# Altium schematic symbol library MySchLib.SchLib: 175 symbols (part 3 of 3)
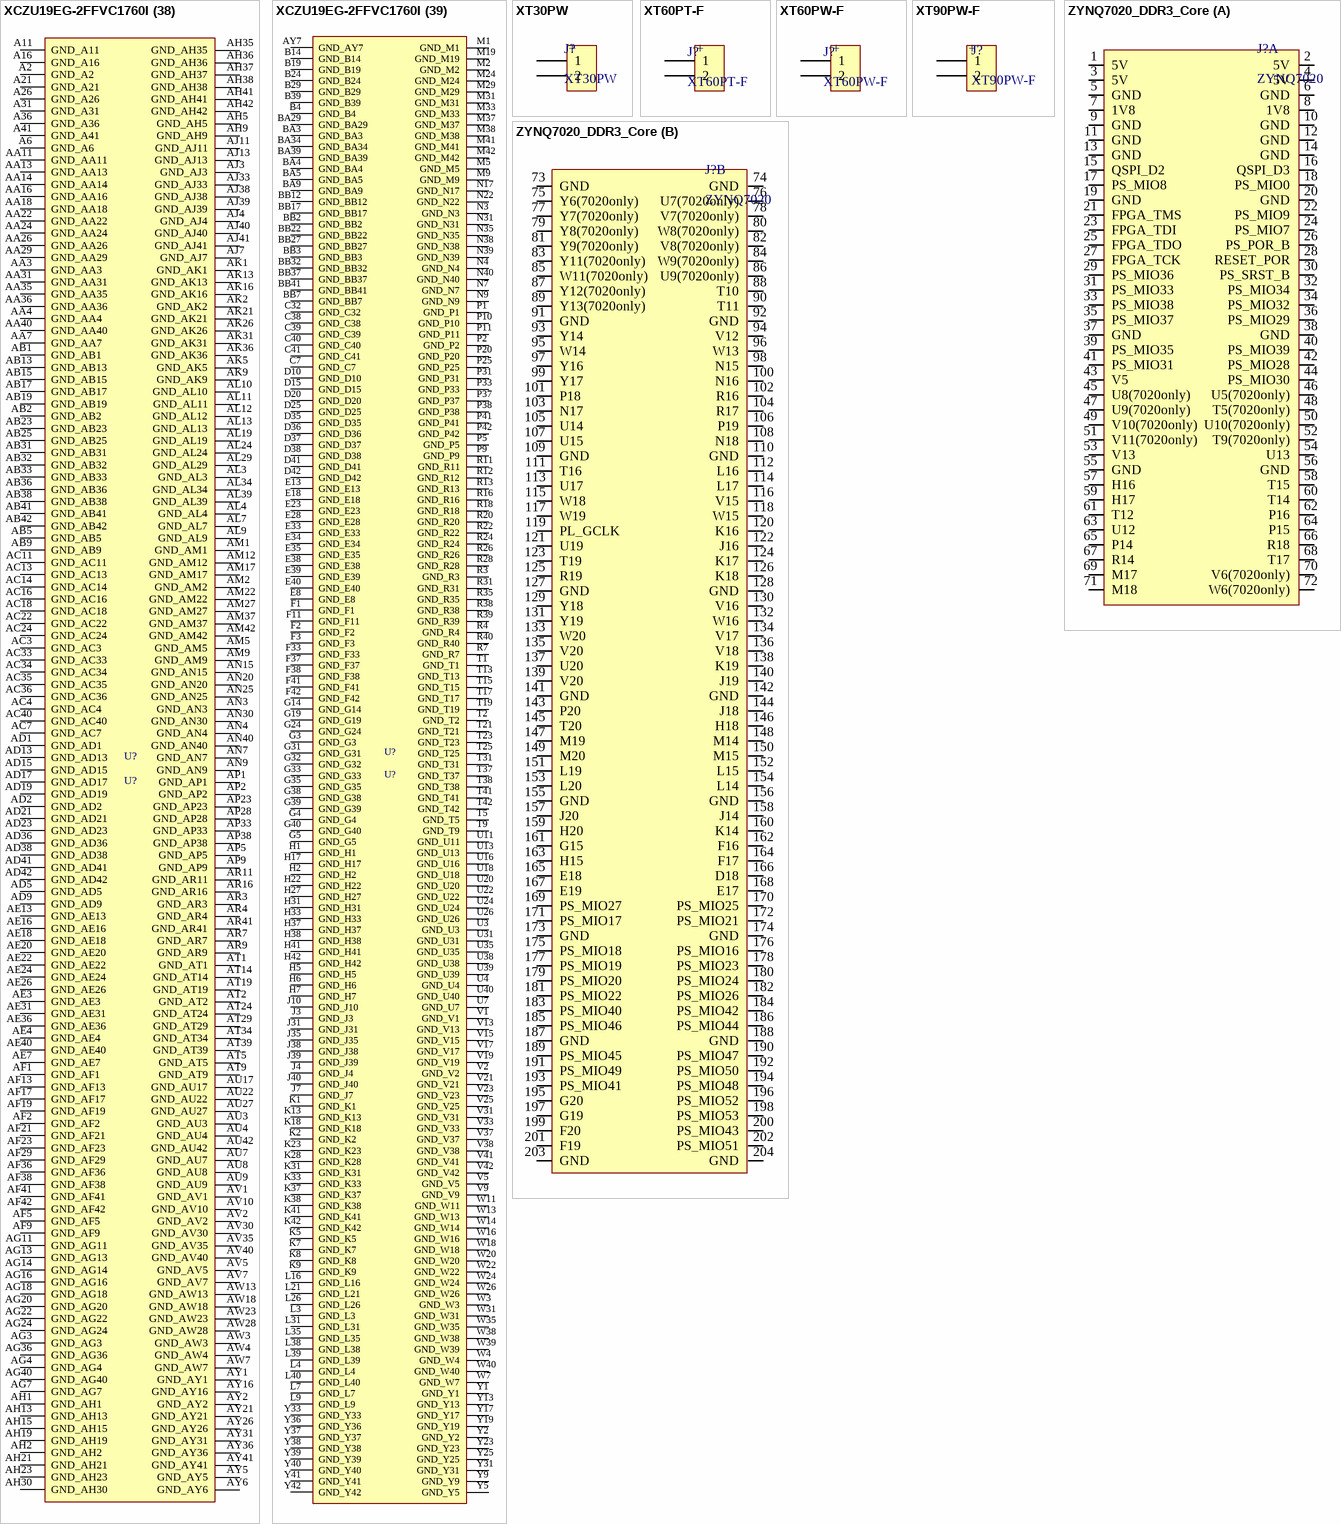
[diagram p18: symbols XCZU19EG-2FFVC1760I to ZYNQ7020_DDR3_Core]

## XCZU19EG-2FFVC1760I
designator U?, comment U?
Quad ARMÂ® CortexÂ®-A53 MPCoreâ„¢ with CoreSightâ„¢, Dual ARMÂ®Cortexâ„¢-R5 with CoreSightâ„¢, ARM Maliâ„¢-400 MP2 System On Chip _SOC_ IC ZynqÂ® UltraScale+â„¢ MPSoC EG ZynqÂ®UltraScale+â„¢ FPGA, 1143K+ Logic Cells 533MHz, 600MHz, 1.3GHz 1760-FCBGA _42.5x42.5_; MP: XCZU19EG-2FFVC1760I; MF: Xilinx Inc.; Availability: Unavailable; Price: None; Package: BBGA-1760 Xilinx Inc.; Value: *; SnapEDA_Link: https://www.snapeda.com/parts/XCZU19EG-2FFVC1760I/Xilinx%20Inc./view-part/3661904/?ref=snap
footprint BGA1764C100P42X42_4250X4250X371N
part A pins: AA20 VREFN (io), AA21 VP (io), AB20 VN (io), AB21 VREFP (io), AC20 DXN (io), AC21 DXP (io), AE11 MGTAVTTRCAL_R (io), AE12 MGTRREF_R (io), AG27 GND_PSADC (power), AG39 PS_MGTRREF_505 (io), AH16 POR_OVERRIDE (io), AH17 PUDC_B_0 (io), AH28 VCC_PSADC (power), AJ28 GND_PSADC (power), AJ29 VCC_PSADC (power), T32 MGTRREF_L (io), T33 MGTAVTTRCAL_L (io), Y20 VCCADC (power), Y21 GNDADC (power)
part B pins: AJ19 VREF_64 (power), AJ20 IO_L23N_T3U_N9_64 (io), AJ21 IO_L23P_T3U_N8_64 (io), AJ22 IO_L24P_T3U_N10_64 (io), AK19 IO_L22N_T3U_N7_DBC_AD0N_64 (io), AK20 IO_L22P_T3U_N6_DBC_AD0P_64 (io), AK22 IO_L24N_T3U_N11_64 (io), AL20 IO_T3U_N12_64 (io), AL21 IO_L21N_T3L_N5_AD8N_64 (io), AL22 IO_L21P_T3L_N4_AD8P_64 (io), AM19 IO_L19P_T3L_N0_DBC_AD9P_64 (io), AM20 IO_L20N_T3L_N3_AD1N_64 (io), AM21 IO_L20P_T3L_N2_AD1P_64 (io), AN19 IO_L19N_T3L_N1_DBC_AD9N_64 (io), AN21 IO_L16P_T2U_N6_QBC_AD3P_64 (io), AN22 IO_L15P_T2L_N4_AD11P_64 (io), AP19 IO_L18P_T2U_N10_AD2P_64 (io), AP20 IO_L17P_T2U_N8_AD10P_64 (io), AP21 IO_L16N_T2U_N7_QBC_AD3N_64 (io), AP22 IO_L15N_T2L_N5_AD11N_64 (io), AR19 IO_L18N_T2U_N11_AD2N_64 (io), AR20 IO_L17N_T2U_N9_AD10N_64 (io), AR21 VCCO_64 (power), AR22 IO_T2U_N12_64 (io), AT20 IO_L14P_T2L_N2_GC_64 (io), AT21 IO_L13N_T2L_N1_GC_QBC_64 (io), AT22 IO_L13P_T2L_N0_GC_QBC_64 (io), AU19 IO_L14N_T2L_N3_GC_64 (io), AU20 IO_L12P_T1U_N10_GC_64 (io), AU21 IO_L11P_T1U_N8_GC_64 (io), AU23 IO_L7P_T1L_N0_QBC_AD13P_64 (io), AV19 IO_L12N_T1U_N11_GC_64 (io), AV20 VCCO_64 (power), AV21 IO_L11N_T1U_N9_GC_64 (io), AV22 IO_L8P_T1L_N2_AD5P_64 (io), AV23 IO_L7N_T1L_N1_QBC_AD13N_64 (io), AW19 IO_L9N_T1L_N5_AD12N_64 (io), AW20 IO_L9P_T1L_N4_AD12P_64 (io), AW21 IO_T1U_N12_64 (io), AW22 IO_L8N_T1L_N3_AD5N_64 (io), AY18 IO_L10N_T1U_N7_QBC_AD4N_64 (io), AY19 IO_L10P_T1U_N6_QBC_AD4P_64 (io), AY20 IO_L4P_T0U_N6_DBC_AD7P_64 (io), AY22 IO_L2N_T0L_N3_64 (io), AY23 IO_L2P_T0L_N2_64 (io), BA18 IO_L6P_T0U_N10_AD6P_64 (io), BA19 VCCO_64 (power), BA20 IO_L4N_T0U_N7_DBC_AD7N_64 (io), BA21 IO_L3N_T0L_N5_AD15N_64 (io), BA22 IO_L3P_T0L_N4_AD15P_64 (io), BA23 IO_L1P_T0L_N0_DBC_64 (io), BB18 IO_L6N_T0U_N11_AD6N_64 (io), BB19 IO_L5N_T0U_N9_AD14N_64 (io), BB20 IO_L5P_T0U_N8_AD14P_64 (io), BB21 IO_T0U_N12_VRP_64 (io), BB23 IO_L1N_T0L_N1_DBC_64 (io)
part C pins: AJ23 VREF_65 (power), AJ24 IO_L24P_T3U_N10_65 (io), AK23 IO_L23P_T3U_N8_I2C_SCLK_65 (io), AK24 IO_L24N_T3U_N11_65 (io), AL23 IO_L23N_T3U_N9_PERSTN1_I2C_SDA_65 (io), AM23 IO_L22P_T3U_N6_DBC_AD0P_65 (io), AM24 IO_L21P_T3L_N4_AD8P_65 (io), AM25 IO_T3U_N12_PERSTN0_65 (io), AM26 IO_L15P_T2L_N4_AD11P_65 (io), AM28 IO_L17P_T2U_N8_AD10P_65 (io), AN23 IO_L22N_T3U_N7_DBC_AD0N_65 (io), AN24 IO_L21N_T3L_N5_AD8N_65 (io), AN26 IO_L15N_T2L_N5_AD11N_65 (io), AN27 IO_L16P_T2U_N6_QBC_AD3P_65 (io), AN28 IO_L17N_T2U_N9_AD10N_65 (io), AP24 IO_L20P_T3L_N2_AD1P_65 (io), AP25 IO_L20N_T3L_N3_AD1N_65 (io), AP26 IO_T2U_N12_65 (io), AP27 IO_L16N_T2U_N7_QBC_AD3N_65 (io), AR23 IO_L19P_T3L_N0_DBC_AD9P_65 (io), AR24 IO_L14P_T2L_N2_GC_65 (io), AR25 IO_L14N_T2L_N3_GC_65 (io), AR26 VCCO_65 (power), AR27 IO_L13P_T2L_N0_GC_QBC_65 (io), AR28 IO_L18P_T2U_N10_AD2P_65 (io), AT23 IO_L19N_T3L_N1_DBC_AD9N_65 (io), AT25 IO_L12P_T1U_N10_GC_65 (io), AT26 IO_L12N_T1U_N11_GC_65 (io), AT27 IO_L13N_T2L_N1_GC_QBC_65 (io), AT28 IO_L18N_T2U_N11_AD2N_65 (io), AU24 IO_L7P_T1L_N0_QBC_AD13P_65 (io), AU25 IO_L11P_T1U_N8_GC_65 (io), AU26 IO_L11N_T1U_N9_GC_65 (io), AU28 IO_L10P_T1U_N6_QBC_AD4P_65 (io), AV24 IO_L7N_T1L_N1_QBC_AD13N_65 (io), AV25 VCCO_65 (power), AV26 IO_L8P_T1L_N2_AD5P_65 (io), AV27 IO_L9P_T1L_N4_AD12P_65 (io), AV28 IO_L10N_T1U_N7_QBC_AD4N_65 (io), AW24 IO_L1P_T0L_N0_DBC_65 (io), AW25 IO_T1U_N12_SMBALERT_65 (io), AW26 IO_L8N_T1L_N3_AD5N_65 (io), AW27 IO_L9N_T1L_N5_AD12N_65 (io), AY24 IO_L1N_T0L_N1_DBC_65 (io), AY25 IO_L3P_T0L_N4_AD15P_65 (io), AY27 IO_L5P_T0U_N8_AD14P_65 (io), AY28 IO_L5N_T0U_N9_AD14N_65 (io), BA24 VCCO_65 (power), BA25 IO_L3N_T0L_N5_AD15N_65 (io), BA26 IO_L4P_T0U_N6_DBC_AD7P_65 (io), BA27 IO_T0U_N12_VRP_65 (io), BA28 IO_L6P_T0U_N10_AD6P_65 (io), BB24 IO_L2P_T0L_N2_65 (io), BB25 IO_L2N_T0L_N3_65 (io), BB26 IO_L4N_T0U_N7_DBC_AD7N_65 (io), BB28 IO_L6N_T0U_N11_AD6N_65 (io)
part D pins: AJ16 VREF_66 (power), AJ17 IO_L22P_T3U_N6_DBC_AD0P_66 (io), AJ18 IO_L19P_T3L_N0_DBC_AD9P_66 (io), AK17 IO_L22N_T3U_N7_DBC_AD0N_66 (io), AK18 IO_L19N_T3L_N1_DBC_AD9N_66 (io), AL16 IO_L23P_T3U_N8_66 (io), AL17 IO_T3U_N12_66 (io), AL18 IO_L20P_T3L_N2_AD1P_66 (io), AM16 IO_L23N_T3U_N9_66 (io), AM18 IO_L20N_T3L_N3_AD1N_66 (io), AN16 IO_L24P_T3U_N10_66 (io), AN17 IO_L21N_T3L_N5_AD8N_66 (io), AN18 IO_L21P_T3L_N4_AD8P_66 (io), AP16 IO_L24N_T3U_N11_66 (io), AP17 IO_T2U_N12_66 (io), AP18 VCCO_66 (power), AR17 IO_L17P_T2U_N8_AD10P_66 (io), AR18 IO_L16P_T2U_N6_QBC_AD3P_66 (io), AT15 IO_L14P_T2L_N2_GC_66 (io), AT16 IO_L18P_T2U_N10_AD2P_66 (io), AT17 IO_L17N_T2U_N9_AD10N_66 (io), AT18 IO_L16N_T2U_N7_QBC_AD3N_66 (io), AU13 IO_L10P_T1U_N6_QBC_AD4P_66 (io), AU14 IO_L12P_T1U_N10_GC_66 (io), AU15 IO_L14N_T2L_N3_GC_66 (io), AU16 IO_L18N_T2U_N11_AD2N_66 (io), AU18 IO_L15P_T2L_N4_AD11P_66 (io), AV13 IO_L10N_T1U_N7_QBC_AD4N_66 (io), AV14 IO_L12N_T1U_N11_GC_66 (io), AV15 VCCO_66 (power), AV16 IO_L13N_T2L_N1_GC_QBC_66 (io), AV17 IO_L13P_T2L_N0_GC_QBC_66 (io), AV18 IO_L15N_T2L_N5_AD11N_66 (io), AW14 IO_L11N_T1U_N9_GC_66 (io), AW15 IO_L11P_T1U_N8_GC_66 (io), AW16 IO_L3N_T0L_N5_AD15N_66 (io), AW17 IO_L3P_T0L_N4_AD15P_66 (io), AY12 IO_L7P_T1L_N0_QBC_AD13P_66 (io), AY13 IO_T0U_N12_VRP_66 (io), AY14 IO_L5N_T0U_N9_AD14N_66 (io), AY15 IO_L5P_T0U_N8_AD14P_66 (io), AY17 IO_L1P_T0L_N0_DBC_66 (io), BA10 IO_L9P_T1L_N4_AD12P_66 (io), BA11 IO_L8P_T1L_N2_AD5P_66 (io), BA12 IO_L7N_T1L_N1_QBC_AD13N_66 (io), BA13 IO_L6P_T0U_N10_AD6P_66 (io), BA14 VCCO_66 (power), BA15 IO_L4P_T0U_N6_DBC_AD7P_66 (io), BA16 IO_L2P_T0L_N2_66 (io), BA17 IO_L1N_T0L_N1_DBC_66 (io), BB10 IO_L9N_T1L_N5_AD12N_66 (io), BB11 IO_L8N_T1L_N3_AD5N_66 (io), BB13 IO_L6N_T0U_N11_AD6N_66 (io), BB14 IO_T1U_N12_66 (io), BB15 IO_L4N_T0U_N7_DBC_AD7N_66 (io), BB16 IO_L2N_T0L_N3_66 (io)
part E pins: AH14 VREF_67 (power), AJ14 IO_L24P_T3U_N10_67 (io), AJ15 IO_L20P_T3L_N2_AD1P_67 (io), AK14 IO_L24N_T3U_N11_67 (io), AK15 IO_L20N_T3L_N3_AD1N_67 (io), AL14 IO_L21P_T3L_N4_AD8P_67 (io), AL15 IO_L19P_T3L_N0_DBC_AD9P_67 (io), AM10 IO_L18P_T2U_N10_AD2P_67 (io), AM11 IO_L17P_T2U_N8_AD10P_67 (io), AM13 IO_L23P_T3U_N8_67 (io), AM14 IO_L21N_T3L_N5_AD8N_67 (io), AM15 IO_L19N_T3L_N1_DBC_AD9N_67 (io), AN10 IO_L18N_T2U_N11_AD2N_67 (io), AN11 IO_L17N_T2U_N9_AD10N_67 (io), AN12 IO_L16P_T2U_N6_QBC_AD3P_67 (io), AN13 IO_L23N_T3U_N9_67 (io), AN14 IO_L22P_T3U_N6_DBC_AD0P_67 (io), AP10 IO_L14P_T2L_N2_GC_67 (io), AP11 IO_T2U_N12_67 (io), AP12 IO_L16N_T2U_N7_QBC_AD3N_67 (io), AP13 VCCO_67 (power), AP14 IO_L22N_T3U_N7_DBC_AD0N_67 (io), AP15 IO_T3U_N12_67 (io), AR10 IO_L14N_T2L_N3_GC_67 (io), AR12 IO_L13N_T2L_N1_GC_QBC_67 (io), AR13 IO_L13P_T2L_N0_GC_QBC_67 (io), AR14 IO_L15N_T2L_N5_AD11N_67 (io), AR15 IO_L15P_T2L_N4_AD11P_67 (io), AT10 IO_L12N_T1U_N11_GC_67 (io), AT11 IO_L12P_T1U_N10_GC_67 (io), AT12 IO_L11N_T1U_N9_GC_67 (io), AT13 IO_L11P_T1U_N8_GC_67 (io), AU10 IO_T1U_N12_67 (io), AU11 IO_L8P_T1L_N2_AD5P_67 (io), AU12 VCCO_67 (power), AV8 IO_L10N_T1U_N7_QBC_AD4N_67 (io), AV9 IO_L10P_T1U_N6_QBC_AD4P_67 (io), AV11 IO_L8N_T1L_N3_AD5N_67 (io), AV12 IO_L7P_T1L_N0_QBC_AD13P_67 (io), AW8 IO_L3P_T0L_N4_AD15P_67 (io), AW9 IO_L1P_T0L_N0_DBC_67 (io), AW10 IO_L9N_T1L_N5_AD12N_67 (io), AW11 IO_L9P_T1L_N4_AD12P_67 (io), AW12 IO_L7N_T1L_N1_QBC_AD13N_67 (io), AY8 IO_L3N_T0L_N5_AD15N_67 (io), AY9 IO_L1N_T0L_N1_DBC_67 (io), AY10 IO_T0U_N12_VRP_67 (io), AY11 VCCO_67 (power), BA6 IO_L5P_T0U_N8_AD14P_67 (io), BA7 IO_L4N_T0U_N7_DBC_AD7N_67 (io), BA8 IO_L4P_T0U_N6_DBC_AD7P_67 (io), BB4 IO_L6N_T0U_N11_AD6N_67 (io), BB5 IO_L6P_T0U_N10_AD6P_67 (io), BB6 IO_L5N_T0U_N9_AD14N_67 (io), BB8 IO_L2N_T0L_N3_67 (io), BB9 IO_L2P_T0L_N2_67 (io)
part F pins: A12 IO_L16N_T2U_N7_QBC_AD3N_68 (io), A13 IO_L17N_T2U_N9_AD10N_68 (io), A14 IO_L17P_T2U_N8_AD10P_68 (io), A15 IO_T3U_N12_68 (io), A17 IO_L22N_T3U_N7_DBC_AD0N_68 (io), A18 IO_L24N_T3U_N11_68 (io), B13 IO_L16P_T2U_N6_QBC_AD3P_68 (io), B15 IO_L18N_T2U_N11_AD2N_68 (io), B16 IO_L20N_T3L_N3_AD1N_68 (io), B17 IO_L22P_T3U_N6_DBC_AD0P_68 (io), B18 IO_L24P_T3U_N10_68 (io), C13 IO_L15N_T2L_N5_AD11N_68 (io), C14 IO_T2U_N12_68 (io), C15 IO_L18P_T2U_N10_AD2P_68 (io), C16 IO_L20P_T3L_N2_AD1P_68 (io), C17 VCCO_68 (power), C18 IO_L23N_T3U_N9_68 (io), D13 IO_L15P_T2L_N4_AD11P_68 (io), D14 IO_L14N_T2L_N3_GC_68 (io), D16 IO_L19N_T3L_N1_DBC_AD9N_68 (io), D17 IO_L21N_T3L_N5_AD8N_68 (io), D18 IO_L23P_T3U_N8_68 (io), E14 IO_L13N_T2L_N1_GC_QBC_68 (io), E15 IO_L14P_T2L_N2_GC_68 (io), E16 IO_L19P_T3L_N0_DBC_AD9P_68 (io), E17 IO_L21P_T3L_N4_AD8P_68 (io), F14 IO_L13P_T2L_N0_GC_QBC_68 (io), F15 IO_L12N_T1U_N11_GC_68 (io), F16 VCCO_68 (power), F17 IO_L11N_T1U_N9_GC_68 (io), F18 IO_L10N_T1U_N7_QBC_AD4N_68 (io), G15 IO_L7N_T1L_N1_QBC_AD13N_68 (io), G16 IO_L12P_T1U_N10_GC_68 (io), G17 IO_L11P_T1U_N8_GC_68 (io), G18 IO_L10P_T1U_N6_QBC_AD4P_68 (io), H15 IO_L7P_T1L_N0_QBC_AD13P_68 (io), H16 IO_L8N_T1L_N3_AD5N_68 (io), H18 IO_L9N_T1L_N5_AD12N_68 (io), J15 VCCO_68 (power), J16 IO_L8P_T1L_N2_AD5P_68 (io), J17 IO_T1U_N12_68 (io), J18 IO_L9P_T1L_N4_AD12P_68 (io), K15 IO_L5N_T0U_N9_AD14N_68 (io), K16 IO_L5P_T0U_N8_AD14P_68 (io), K17 IO_L6N_T0U_N11_AD6N_68 (io), L15 IO_L4N_T0U_N7_DBC_AD7N_68 (io), L17 IO_L6P_T0U_N10_AD6P_68 (io), M15 IO_L4P_T0U_N6_DBC_AD7P_68 (io), M16 IO_L3N_T0L_N5_AD15N_68 (io), M17 IO_L3P_T0L_N4_AD15P_68 (io), N15 IO_L1N_T0L_N1_DBC_68 (io), N16 IO_L2N_T0L_N3_68 (io), P15 IO_L1P_T0L_N0_DBC_68 (io), P16 IO_L2P_T0L_N2_68 (io), P17 VREF_68 (power), R15 IO_T0U_N12_VRP_68 (io)
part G pins: A29 IO_L9P_T1L_N4_AD12P_69 (io), A30 IO_L9N_T1L_N5_AD12N_69 (io), A32 IO_L10N_T1U_N7_QBC_AD4N_69 (io), A33 IO_L18P_T2U_N10_AD2P_69 (io), A34 IO_L18N_T2U_N11_AD2N_69 (io), A35 IO_L17N_T2U_N9_AD10N_69 (io), A37 IO_L21P_T3L_N4_AD8P_69 (io), A38 IO_L21N_T3L_N5_AD8N_69 (io), A39 IO_L22P_T3U_N6_DBC_AD0P_69 (io), A40 IO_L22N_T3U_N7_DBC_AD0N_69 (io), B30 IO_L8N_T1L_N3_AD5N_69 (io), B31 IO_L10P_T1U_N6_QBC_AD4P_69 (io), B32 IO_L14P_T2L_N2_GC_69 (io), B33 IO_L14N_T2L_N3_GC_69 (io), B34 VCCO_69 (power), B35 IO_L17P_T2U_N8_AD10P_69 (io), B36 IO_L20P_T3L_N2_AD1P_69 (io), B37 IO_L20N_T3L_N3_AD1N_69 (io), B38 IO_T3U_N12_69 (io), B40 IO_L23P_T3U_N8_69 (io), B41 IO_L23N_T3U_N9_69 (io), B42 IO_L24N_T3U_N11_69 (io), C29 IO_L8P_T1L_N2_AD5P_69 (io), C30 IO_L12P_T1U_N10_GC_69 (io), C31 IO_L12N_T1U_N11_GC_69 (io), C33 IO_L15N_T2L_N5_AD11N_69 (io), C34 IO_L16N_T2U_N7_QBC_AD3N_69 (io), C35 IO_T2U_N12_69 (io), C36 IO_L19P_T3L_N0_DBC_AD9P_69 (io), C37 IO_L19N_T3L_N1_DBC_AD9N_69 (io), C42 IO_L24P_T3U_N10_69 (io), D29 IO_L7N_T1L_N1_QBC_AD13N_69 (io), D30 VCCO_69 (power), D31 IO_L11N_T1U_N9_GC_69 (io), D32 IO_L13N_T2L_N1_GC_QBC_69 (io), D33 IO_L15P_T2L_N4_AD11P_69 (io), D34 IO_L16P_T2U_N6_QBC_AD3P_69 (io), E29 IO_L7P_T1L_N0_QBC_AD13P_69 (io), E30 IO_T1U_N12_69 (io), E31 IO_L11P_T1U_N8_GC_69 (io), E32 IO_L13P_T2L_N0_GC_QBC_69 (io), F29 IO_L5N_T0U_N9_AD14N_69 (io), F30 IO_L4N_T0U_N7_DBC_AD7N_69 (io), F31 IO_L3P_T0L_N4_AD15P_69 (io), F32 IO_L3N_T0L_N5_AD15N_69 (io), G28 IO_L5P_T0U_N8_AD14P_69 (io), G29 VCCO_69 (power), G30 IO_L4P_T0U_N6_DBC_AD7P_69 (io), H28 IO_L6N_T0U_N11_AD6N_69 (io), H29 IO_T0U_N12_VRP_69 (io), H30 IO_L2N_T0L_N3_69 (io), J28 IO_L6P_T0U_N10_AD6P_69 (io), J29 IO_L1N_T0L_N1_DBC_69 (io), J30 IO_L2P_T0L_N2_69 (io), K29 IO_L1P_T0L_N0_DBC_69 (io), K30 VREF_69 (power)
part H pins: A24 IO_L24P_T3U_N10_70 (io), A25 IO_L24N_T3U_N11_70 (io), A27 IO_L20P_T3L_N2_AD1P_70 (io), A28 IO_L20N_T3L_N3_AD1N_70 (io), B25 IO_L22P_T3U_N6_DBC_AD0P_70 (io), B26 IO_L22N_T3U_N7_DBC_AD0N_70 (io), B27 IO_L21N_T3L_N5_AD8N_70 (io), B28 IO_L19N_T3L_N1_DBC_AD9N_70 (io), C24 IO_L23P_T3U_N8_70 (io), C25 IO_L23N_T3U_N9_70 (io), C26 IO_L21P_T3L_N4_AD8P_70 (io), C27 VCCO_70 (power), C28 IO_L19P_T3L_N0_DBC_AD9P_70 (io), D24 IO_T3U_N12_70 (io), D26 IO_T2U_N12_70 (io), D27 IO_L17P_T2U_N8_AD10P_70 (io), D28 IO_L17N_T2U_N9_AD10N_70 (io), E24 IO_L18N_T2U_N11_AD2N_70 (io), E25 IO_L14N_T2L_N3_GC_70 (io), E26 IO_L16P_T2U_N6_QBC_AD3P_70 (io), E27 IO_L16N_T2U_N7_QBC_AD3N_70 (io), F24 IO_L18P_T2U_N10_AD2P_70 (io), F25 IO_L14P_T2L_N2_GC_70 (io), F26 VCCO_70 (power), F27 IO_L15P_T2L_N4_AD11P_70 (io), F28 IO_L15N_T2L_N5_AD11N_70 (io), G23 IO_L10N_T1U_N7_QBC_AD4N_70 (io), G25 IO_L12N_T1U_N11_GC_70 (io), G26 IO_L13P_T2L_N0_GC_QBC_70 (io), G27 IO_L13N_T2L_N1_GC_QBC_70 (io), H23 IO_L10P_T1U_N6_QBC_AD4P_70 (io), H24 IO_L12P_T1U_N10_GC_70 (io), H25 IO_L11P_T1U_N8_GC_70 (io), H26 IO_L11N_T1U_N9_GC_70 (io), J23 IO_L9P_T1L_N4_AD12P_70 (io), J24 IO_L9N_T1L_N5_AD12N_70 (io), J25 VCCO_70 (power), J26 IO_L8N_T1L_N3_AD5N_70 (io), J27 IO_L7N_T1L_N1_QBC_AD13N_70 (io), K24 IO_L4N_T0U_N7_DBC_AD7N_70 (io), K25 IO_T1U_N12_70 (io), K26 IO_L8P_T1L_N2_AD5P_70 (io), K27 IO_L7P_T1L_N0_QBC_AD13P_70 (io), L23 IO_L6N_T0U_N11_AD6N_70 (io), L24 IO_L4P_T0U_N6_DBC_AD7P_70 (io), L25 IO_L2N_T0L_N3_70 (io), M23 IO_L6P_T0U_N10_AD6P_70 (io), M25 IO_L2P_T0L_N2_70 (io), M26 IO_T0U_N12_VRP_70 (io), N23 IO_L5N_T0U_N9_AD14N_70 (io), N24 IO_L3P_T0L_N4_AD15P_70 (io), N25 IO_L3N_T0L_N5_AD15N_70 (io), N26 IO_L1N_T0L_N1_DBC_70 (io), P23 IO_L5P_T0U_N8_AD14P_70 (io), P24 VREF_70 (power), P26 IO_L1P_T0L_N0_DBC_70 (io)
part I pins: A19 IO_L21N_T3L_N5_AD8N_71 (io), A20 IO_L21P_T3L_N4_AD8P_71 (io), A22 IO_L23N_T3U_N9_71 (io), A23 IO_L24N_T3U_N11_71 (io), B20 IO_L20N_T3L_N3_AD1N_71 (io), B21 IO_L22N_T3U_N7_DBC_AD0N_71 (io), B22 IO_L23P_T3U_N8_71 (io), B23 IO_L24P_T3U_N10_71 (io), C19 IO_L19N_T3L_N1_DBC_AD9N_71 (io), C20 IO_L20P_T3L_N2_AD1P_71 (io), C21 IO_L22P_T3U_N6_DBC_AD0P_71 (io), C22 VCCO_71 (power), C23 IO_T3U_N12_71 (io), D19 IO_L19P_T3L_N0_DBC_AD9P_71 (io), D21 IO_L17N_T2U_N9_AD10N_71 (io), D22 IO_L18N_T2U_N11_AD2N_71 (io), D23 IO_T2U_N12_71 (io), E19 IO_L15N_T2L_N5_AD11N_71 (io), E20 IO_L16N_T2U_N7_QBC_AD3N_71 (io), E21 IO_L17P_T2U_N8_AD10P_71 (io), E22 IO_L18P_T2U_N10_AD2P_71 (io), F19 IO_L15P_T2L_N4_AD11P_71 (io), F20 IO_L16P_T2U_N6_QBC_AD3P_71 (io), F21 VCCO_71 (power), F22 IO_L14N_T2L_N3_GC_71 (io), F23 IO_L14P_T2L_N2_GC_71 (io), G20 IO_L12N_T1U_N11_GC_71 (io), G21 IO_L13N_T2L_N1_GC_QBC_71 (io), G22 IO_L13P_T2L_N0_GC_QBC_71 (io), H19 IO_L11N_T1U_N9_GC_71 (io), H20 IO_L11P_T1U_N8_GC_71 (io), H21 IO_L12P_T1U_N10_GC_71 (io), J19 IO_L7N_T1L_N1_QBC_AD13N_71 (io), J20 VCCO_71 (power), J21 IO_L9N_T1L_N5_AD12N_71 (io), J22 IO_L10N_T1U_N7_QBC_AD4N_71 (io), K19 IO_L7P_T1L_N0_QBC_AD13P_71 (io), K20 IO_L8N_T1L_N3_AD5N_71 (io), K21 IO_L9P_T1L_N4_AD12P_71 (io), K22 IO_L10P_T1U_N6_QBC_AD4P_71 (io), L18 IO_L2N_T0L_N3_71 (io), L19 IO_L3N_T0L_N5_AD15N_71 (io), L20 IO_L8P_T1L_N2_AD5P_71 (io), L22 IO_T1U_N12_71 (io), M18 IO_L2P_T0L_N2_71 (io), M20 IO_L3P_T0L_N4_AD15P_71 (io), M21 IO_L6N_T0U_N11_AD6N_71 (io), M22 IO_L6P_T0U_N10_AD6P_71 (io), N18 IO_L1N_T0L_N1_DBC_71 (io), N19 IO_L4N_T0U_N7_DBC_AD7N_71 (io), N20 IO_L4P_T0U_N6_DBC_AD7P_71 (io), N21 IO_L5N_T0U_N9_AD14N_71 (io), P18 IO_L1P_T0L_N0_DBC_71 (io), P19 VREF_71 (power), P21 IO_L5P_T0U_N8_AD14P_71 (io), P22 IO_T0U_N12_VRP_71 (io)
part J pins: J12 IO_L12N_AD0N_90 (io), J13 IO_L12P_AD0P_90 (io), J14 IO_L11N_AD1N_90 (io), K10 IO_L10N_AD2N_90 (io), K11 IO_L10P_AD2P_90 (io), K12 IO_L7N_HDGC_AD5N_90 (io), K14 IO_L11P_AD1P_90 (io), L10 IO_L9N_AD3N_90 (io), L11 VCCO_90 (power), L12 IO_L7P_HDGC_AD5P_90 (io), L13 IO_L8N_HDGC_AD4N_90 (io), L14 IO_L8P_HDGC_AD4P_90 (io), M10 IO_L9P_AD3P_90 (io), M11 IO_L6N_HDGC_AD6N_90 (io), M12 IO_L6P_HDGC_AD6P_90 (io), M13 IO_L5N_HDGC_AD7N_90 (io), M14 VCCO_90 (power), N10 IO_L1N_AD11N_90 (io), N11 IO_L1P_AD11P_90 (io), N12 IO_L2N_AD10N_90 (io), N13 IO_L5P_HDGC_AD7P_90 (io), N14 IO_L4N_AD8N_90 (io), P12 IO_L2P_AD10P_90 (io), P13 IO_L3N_AD9N_90 (io), P14 IO_L4P_AD8P_90 (io), R14 IO_L3P_AD9P_90 (io)
part K pins: A9 IO_L12N_AD8N_91 (io), A10 IO_L12P_AD8P_91 (io), B10 IO_L10N_AD10N_91 (io), B11 IO_L11N_AD9N_91 (io), B12 IO_L11P_AD9P_91 (io), C10 IO_L10P_AD10P_91 (io), C11 IO_L9N_AD11N_91 (io), C12 VCCO_91 (power), D11 IO_L9P_AD11P_91 (io), D12 IO_L8N_HDGC_91 (io), E10 IO_L7N_HDGC_91 (io), E11 IO_L7P_HDGC_91 (io), E12 IO_L8P_HDGC_91 (io), F10 IO_L5N_HDGC_91 (io), F12 IO_L6N_HDGC_91 (io), F13 IO_L6P_HDGC_91 (io), G10 IO_L5P_HDGC_91 (io), G11 IO_L2N_AD14N_91 (io), G12 IO_L3N_AD13N_91 (io), G13 IO_L4N_AD12N_91 (io), H10 IO_L1N_AD15N_91 (io), H11 IO_L2P_AD14P_91 (io), H12 VCCO_91 (power), H13 IO_L3P_AD13P_91 (io), H14 IO_L4P_AD12P_91 (io), J11 IO_L1P_AD15P_91 (io)
part L pins: A7 IO_L10N_AD2N_93 (io), A8 IO_L11N_AD1N_93 (io), B7 IO_L10P_AD2P_93 (io), B8 IO_L11P_AD1P_93 (io), B9 VCCO_93 (power), C8 IO_L8N_HDGC_AD4N_93 (io), C9 IO_L12N_AD0N_93 (io), D6 IO_L9N_AD3N_93 (io), D7 IO_L7N_HDGC_AD5N_93 (io), D8 IO_L8P_HDGC_AD4P_93 (io), D9 IO_L12P_AD0P_93 (io), E6 IO_L9P_AD3P_93 (io), E7 IO_L7P_HDGC_AD5P_93 (io), E9 IO_L4N_AD8N_93 (io), F6 IO_L1N_AD11N_93 (io), F7 IO_L5N_HDGC_AD7N_93 (io), F8 IO_L6N_HDGC_AD6N_93 (io), F9 IO_L4P_AD8P_93 (io), G6 IO_L1P_AD11P_93 (io), G7 IO_L5P_HDGC_AD7P_93 (io), G8 IO_L6P_HDGC_AD6P_93 (io), G9 VCCO_93 (power), H8 IO_L2N_AD10N_93 (io), H9 IO_L3N_AD9N_93 (io), J8 IO_L2P_AD10P_93 (io), J9 IO_L3P_AD9P_93 (io)
part M pins: A3 IO_L10N_AD10N_94 (io), A4 IO_L12N_AD8N_94 (io), A5 IO_L12P_AD8P_94 (io), B1 IO_L9N_AD11N_94 (io), B2 IO_L9P_AD11P_94 (io), B3 IO_L10P_AD10P_94 (io), B5 IO_L11N_AD9N_94 (io), B6 IO_L11P_AD9P_94 (io), C1 IO_L6N_HDGC_94 (io), C2 VCCO_94 (power), C3 IO_L8N_HDGC_94 (io), C4 IO_L8P_HDGC_94 (io), C5 IO_L7N_HDGC_94 (io), C6 IO_L7P_HDGC_94 (io), D1 IO_L4N_AD12N_94 (io), D2 IO_L6P_HDGC_94 (io), D3 IO_L5N_HDGC_94 (io), D4 IO_L5P_HDGC_94 (io), D5 VCCO_94 (power), E1 IO_L4P_AD12P_94 (io), E2 IO_L3N_AD13N_94 (io), E3 IO_L3P_AD13P_94 (io), E4 IO_L2N_AD14N_94 (io), E5 IO_L2P_AD14P_94 (io), F4 IO_L1N_AD15N_94 (io), F5 IO_L1P_AD15P_94 (io)
part N pins: AA32 MGTREFCLK1P_128 (io), AA33 MGTREFCLK1N_128 (io), AB34 MGTREFCLK0P_128 (io), AB35 MGTREFCLK0N_128 (io), T39 MGTYRXP3_128 (io), T40 MGTYRXN3_128 (io), U36 MGTYTXP3_128 (io), U37 MGTYTXN3_128 (io), U41 MGTYRXP2_128 (io), U42 MGTYRXN2_128 (io), V34 MGTYTXP2_128 (io), V35 MGTYTXN2_128 (io), V39 MGTYRXP1_128 (io), V40 MGTYRXN1_128 (io), W36 MGTYTXP1_128 (io), W37 MGTYTXN1_128 (io), W41 MGTYRXP0_128 (io), W42 MGTYRXN0_128 (io), Y34 MGTYTXP0_128 (io), Y35 MGTYTXN0_128 (io)
part O pins: M39 MGTYRXP3_129 (io), M40 MGTYRXN3_129 (io), N36 MGTYTXP3_129 (io), N37 MGTYTXN3_129 (io), N41 MGTYRXP2_129 (io), N42 MGTYRXN2_129 (io), P34 MGTYTXP2_129 (io), P35 MGTYTXN2_129 (io), P39 MGTYRXP1_129 (io), P40 MGTYRXN1_129 (io), R36 MGTYTXP1_129 (io), R37 MGTYTXN1_129 (io), R41 MGTYRXP0_129 (io), R42 MGTYRXN0_129 (io), T34 MGTYTXP0_129 (io), T35 MGTYTXN0_129 (io), U32 MGTREFCLK1P_129 (io), U33 MGTREFCLK1N_129 (io), W32 MGTREFCLK0P_129 (io), W33 MGTREFCLK0N_129 (io)
part P pins: H39 MGTYRXP3_130 (io), H40 MGTYRXN3_130 (io), J36 MGTYTXP3_130 (io), J37 MGTYTXN3_130 (io), J41 MGTYRXP2_130 (io), J42 MGTYRXN2_130 (io), K34 MGTYTXP2_130 (io), K35 MGTYTXN2_130 (io), K39 MGTYRXP1_130 (io), K40 MGTYRXN1_130 (io), L36 MGTYTXP1_130 (io), L37 MGTYTXN1_130 (io), L41 MGTYRXP0_130 (io), L42 MGTYRXN0_130 (io), M34 MGTYTXP0_130 (io), M35 MGTYTXN0_130 (io), N32 MGTREFCLK1P_130 (io), N33 MGTREFCLK1N_130 (io), R32 MGTREFCLK0P_130 (io), R33 MGTREFCLK0N_130 (io)
part Q pins: D39 MGTYRXP3_131 (io), D40 MGTYRXN3_131 (io), E36 MGTYTXP3_131 (io), E37 MGTYTXN3_131 (io), E41 MGTYRXP2_131 (io), E42 MGTYRXN2_131 (io), F34 MGTYTXP2_131 (io), F35 MGTYTXN2_131 (io), F39 MGTYRXP1_131 (io), F40 MGTYRXN1_131 (io), G36 MGTYTXP1_131 (io), G37 MGTYTXN1_131 (io), G41 MGTYRXP0_131 (io), G42 MGTYRXN0_131 (io), H34 MGTYTXP0_131 (io), H35 MGTYTXN0_131 (io), J32 MGTREFCLK1P_131 (io), J33 MGTREFCLK1N_131 (io), L32 MGTREFCLK0P_131 (io), L33 MGTREFCLK0N_131 (io)
part R pins: AJ9 MGTREFCLK1N_224 (io), AJ10 MGTREFCLK1P_224 (io), AK11 MGTREFCLK0N_224 (io), AK12 MGTREFCLK0P_224 (io), AT7 MGTHTXN3_224 (io), AT8 MGTHTXP3_224 (io), AU1 MGTHRXN3_224 (io), AU2 MGTHRXP3_224 (io), AU5 MGTHTXN2_224 (io), AU6 MGTHTXP2_224 (io), AV3 MGTHRXN2_224 (io), AV4 MGTHRXP2_224 (io), AW1 MGTHRXN1_224 (io), AW2 MGTHRXP1_224 (io), AW5 MGTHTXN1_224 (io), AW6 MGTHTXP1_224 (io), AY3 MGTHTXN0_224 (io), AY4 MGTHTXP0_224 (io), BA1 MGTHRXN0_224 (io), BA2 MGTHRXP0_224 (io)
part S pins: AG9 MGTREFCLK1N_225 (io), AG10 MGTREFCLK1P_225 (io), AH11 MGTREFCLK0N_225 (io), AH12 MGTREFCLK0P_225 (io), AM7 MGTHTXN3_225 (io), AM8 MGTHTXP3_225 (io), AN1 MGTHRXN3_225 (io), AN2 MGTHRXP3_225 (io), AN5 MGTHTXN2_225 (io), AN6 MGTHTXP2_225 (io), AP3 MGTHRXN2_225 (io), AP4 MGTHRXP2_225 (io), AP7 MGTHTXN1_225 (io), AP8 MGTHTXP1_225 (io), AR1 MGTHRXN1_225 (io), AR2 MGTHRXP1_225 (io), AR5 MGTHTXN0_225 (io), AR6 MGTHTXP0_225 (io), AT3 MGTHRXN0_225 (io), AT4 MGTHRXP0_225 (io)
part T pins: AE9 MGTREFCLK1N_226 (io), AE10 MGTREFCLK1P_226 (io), AF11 MGTREFCLK0N_226 (io), AF12 MGTREFCLK0P_226 (io), AH7 MGTHTXN3_226 (io), AH8 MGTHTXP3_226 (io), AJ1 MGTHRXN3_226 (io), AJ2 MGTHRXP3_226 (io), AJ5 MGTHTXN2_226 (io), AJ6 MGTHTXP2_226 (io), AK3 MGTHRXN2_226 (io), AK4 MGTHRXP2_226 (io), AK7 MGTHTXN1_226 (io), AK8 MGTHTXP1_226 (io), AL1 MGTHRXN1_226 (io), AL2 MGTHRXP1_226 (io), AL5 MGTHTXN0_226 (io), AL6 MGTHTXP0_226 (io), AM3 MGTHRXN0_226 (io), AM4 MGTHRXP0_226 (io)
part U pins: AC9 MGTREFCLK1N_227 (io), AC10 MGTREFCLK1P_227 (io), AD7 MGTHTXN3_227 (io), AD8 MGTHTXP3_227 (io), AD11 MGTREFCLK0N_227 (io), AD12 MGTREFCLK0P_227 (io), AE1 MGTHRXN3_227 (io), AE2 MGTHRXP3_227 (io), AE5 MGTHTXN2_227 (io), AE6 MGTHTXP2_227 (io), AF3 MGTHRXN2_227 (io), AF4 MGTHRXP2_227 (io), AF7 MGTHTXN1_227 (io), AF8 MGTHTXP1_227 (io), AG1 MGTHRXN1_227 (io), AG2 MGTHRXP1_227 (io), AG5 MGTHTXN0_227 (io), AG6 MGTHTXP0_227 (io), AH3 MGTHRXN0_227 (io), AH4 MGTHRXP0_227 (io)
part V pins: AA1 MGTHRXN3_228 (io), AA2 MGTHRXP3_228 (io), AA5 MGTHTXN2_228 (io), AA6 MGTHTXP2_228 (io), AA9 MGTREFCLK1N_228 (io), AA10 MGTREFCLK1P_228 (io), AB3 MGTHRXN2_228 (io), AB4 MGTHRXP2_228 (io), AB7 MGTHTXN1_228 (io), AB8 MGTHTXP1_228 (io), AB11 MGTREFCLK0N_228 (io), AB12 MGTREFCLK0P_228 (io), AC1 MGTHRXN1_228 (io), AC2 MGTHRXP1_228 (io), AC5 MGTHTXN0_228 (io), AC6 MGTHTXP0_228 (io), AD3 MGTHRXN0_228 (io), AD4 MGTHRXP0_228 (io), Y7 MGTHTXN3_228 (io), Y8 MGTHTXP3_228 (io)
part W pins: T7 MGTHTXN3_229 (io), T8 MGTHTXP3_229 (io), U1 MGTHRXN3_229 (io), U2 MGTHRXP3_229 (io), U5 MGTHTXN2_229 (io), U6 MGTHTXP2_229 (io), V3 MGTHRXN2_229 (io), V4 MGTHRXP2_229 (io), V7 MGTHTXN1_229 (io), V8 MGTHTXP1_229 (io), W1 MGTHRXN1_229 (io), W2 MGTHRXP1_229 (io), W5 MGTHTXN0_229 (io), W6 MGTHTXP0_229 (io), W9 MGTREFCLK1N_229 (io), W10 MGTREFCLK1P_229 (io), Y3 MGTHRXN0_229 (io), Y4 MGTHRXP0_229 (io), Y11 MGTREFCLK0N_229 (io), Y12 MGTREFCLK0P_229 (io)
part X pins: M7 MGTHTXN3_230 (io), M8 MGTHTXP3_230 (io), N1 MGTHRXN3_230 (io), N2 MGTHRXP3_230 (io), N5 MGTHTXN2_230 (io), N6 MGTHTXP2_230 (io), P3 MGTHRXN2_230 (io), P4 MGTHRXP2_230 (io), P7 MGTHTXN1_230 (io), P8 MGTHTXP1_230 (io), R1 MGTHRXN1_230 (io), R2 MGTHRXP1_230 (io), R5 MGTHTXN0_230 (io), R6 MGTHTXP0_230 (io), T3 MGTHRXN0_230 (io), T4 MGTHRXP0_230 (io), U9 MGTREFCLK1N_230 (io), U10 MGTREFCLK1P_230 (io), V11 MGTREFCLK0N_230 (io), V12 MGTREFCLK0P_230 (io)
part Y pins: G1 MGTHRXN3_231 (io), G2 MGTHRXP3_231 (io), H3 MGTHTXN3_231 (io), H4 MGTHTXP3_231 (io), J1 MGTHRXN2_231 (io), J2 MGTHRXP2_231 (io), J5 MGTHTXN2_231 (io), J6 MGTHTXP2_231 (io), K3 MGTHTXN1_231 (io), K4 MGTHTXP1_231 (io), L1 MGTHRXN1_231 (io), L2 MGTHRXP1_231 (io), L5 MGTHTXN0_231 (io), L6 MGTHTXP0_231 (io), M3 MGTHRXN0_231 (io), M4 MGTHRXP0_231 (io), R9 MGTREFCLK1N_231 (io), R10 MGTREFCLK1P_231 (io), T11 MGTREFCLK0N_231 (io), T12 MGTREFCLK0P_231 (io)
part Z pins: AD34 PS_MIO13 (io), AD35 PS_MIO15 (io), AE34 PS_MIO18 (io), AE35 PS_MIO19 (io), AF34 VCCO_PSIO0_500 (power), AF35 PS_MIO21 (io), AG34 PS_MIO25 (io), AG35 PS_MIO23 (io), AH32 PS_MIO22 (io), AH33 PS_MIO24 (io), AH34 PS_MIO20 (io), AJ30 PS_MIO17 (io), AJ31 PS_MIO16 (io), AJ32 PS_MIO14 (io), AJ34 PS_MIO12 (io), AK30 PS_MIO10 (io), AK32 PS_MIO11 (io), AK33 PS_MIO8 (io), AK34 PS_MIO9 (io), AL30 PS_MIO7 (io), AL31 PS_MIO6 (io), AL32 PS_MIO5 (io), AL33 PS_MIO4 (io), AM29 PS_MIO1 (io), AM30 PS_MIO3 (io), AM31 PS_MIO2 (io), AM32 VCCO_PSIO0_500 (power), AM33 PS_MIO0 (io)
part 27 pins: L27 PS_MIO26 (io), L28 PS_MIO28 (io), L29 PS_MIO27 (io), L30 PS_MIO30 (io), M27 PS_MIO29 (io), M28 PS_MIO31 (io), M30 PS_MIO32 (io), N27 VCCO_PSIO1_501 (power), N28 PS_MIO33 (io), N29 PS_MIO35 (io), N30 PS_MIO37 (io), P27 PS_MIO34 (io), P28 PS_MIO40 (io), P29 PS_MIO39 (io), P30 PS_MIO41 (io), R27 PS_MIO38 (io), R29 PS_MIO44 (io), R30 PS_MIO43 (io), T27 PS_MIO36 (io), T28 PS_MIO47 (io), T29 PS_MIO45 (io), T30 PS_MIO42 (io), U28 PS_MIO46 (io), U29 PS_MIO49 (io), U30 VCCO_PSIO1_501 (power), V29 PS_MIO50 (io), V30 PS_MIO48 (io), W30 PS_MIO51 (io)
part 28 pins: AA30 PS_MIO56 (io), AB29 PS_MIO55 (io), AB30 PS_MIO57 (io), AC29 PS_MIO58 (io), AC30 VCCO_PSIO2_502 (power), AC31 PS_MIO59 (io), AC32 PS_MIO61 (io), AD29 PS_MIO60 (io), AD30 PS_MIO63 (io), AD31 PS_MIO62 (io), AD32 PS_MIO64 (io), AD33 PS_MIO66 (io), AE29 PS_MIO65 (io), AE30 PS_MIO67 (io), AE32 PS_MIO69 (io), AE33 PS_MIO68 (io), AF30 PS_MIO70 (io), AF31 PS_MIO71 (io), AF32 PS_MIO72 (io), AF33 PS_MIO75 (io), AG30 PS_MIO73 (io), AG31 PS_MIO77 (io), AG32 VCCO_PSIO2_502 (power), AG33 PS_MIO74 (io), AH31 PS_MIO76 (io), W29 PS_MIO52 (io), Y29 PS_MIO54 (io), Y30 PS_MIO53 (io)
part 29 pins: AA27 PS_MODE0 (io), AA28 PS_MODE2 (io), AB27 PS_SRST_B (io), AB28 PS_MODE3 (io), AC26 PS_JTAG_TCK (io), AC27 PS_REF_CLK (io), AC28 PS_MODE1 (io), AD25 PS_JTAG_TDI (io), AD26 PS_JTAG_TMS (io), AD27 PS_JTAG_TDO (io), AD28 VCCO_PSIO3_503 (power), AE27 PS_PADO (io), AE28 PS_PADI (io), U27 PS_ERROR_OUT (io), V27 PS_INIT_B (io), V28 PS_ERROR_STATUS (io), W27 PS_POR_B (io), W28 VCCO_PSIO3_503 (power), Y27 PS_PROG_B (io), Y28 PS_DONE (io)
part 30 pins: AJ35 PS_DDR_DQ46 (io), AJ36 PS_DDR_DQ44 (io), AJ37 PS_DDR_DQS_P5 (io), AJ42 PS_DDR_DQ60 (io), AK35 PS_DDR_DQ47 (io), AK37 PS_DDR_DQS_N5 (io), AK38 PS_DDR_DQ42 (io), AK39 PS_DDR_DQ43 (io), AK40 PS_DDR_DQ62 (io), AK41 PS_DDR_DQ63 (io), AK42 PS_DDR_DQ61 (io), AL35 PS_DDR_DQ45 (io), AL36 PS_DDR_DM5 (io), AL37 PS_DDR_DQ40 (io), AL38 PS_DDR_DQ41 (io), AL40 PS_DDR_DQS_P7 (io), AL41 PS_DDR_DQS_N7 (io), AL42 PS_DDR_DM7 (io), AM34 PS_DDR_RAM_RST_N (io), AM35 PS_DDR_PARITY (io), AM36 PS_DDR_ALERT_N (io), AM38 PS_DDR_DQ57 (io), AM39 PS_DDR_DQ56 (io), AM40 PS_DDR_DQ58 (io), AM41 PS_DDR_DQ59 (io), AN29 PS_DDR_DQ16 (io), AN31 PS_DDR_DQ31 (io), AN32 PS_DDR_DQ30 (io), AN33 PS_DDR_DQ28 (io), AN34 PS_DDR_ZQ (io), AN35 VCCO_PSDDR_504 (power), AN36 PS_DDR_BA1 (io), AN37 PS_DDR_BA0 (io), AN38 PS_DDR_DQ39 (io), AN39 PS_DDR_DQ36 (io), AN41 PS_DDR_DQ32 (io), AN42 PS_DDR_DQ33 (io), AP29 PS_DDR_DQ17 (io), AP30 PS_DDR_DQ18 (io), AP31 PS_DDR_DQ19 (io), AP32 PS_DDR_DQ29 (io), AP34 PS_DDR_A17 (io), AP35 PS_DDR_BG1 (io), AP36 PS_DDR_BG0 (io), AP37 PS_DDR_A6 (io), AP39 PS_DDR_DQ38 (io), AP40 PS_DDR_DQS_P4 (io), AP41 PS_DDR_DQ35 (io), AP42 PS_DDR_DQ34 (io), AR29 PS_DDR_DM2 (io), AR30 PS_DDR_DQS_P2 (io), AR31 VCCO_PSDDR_504 (power), AR32 PS_DDR_DQS_P3 (io), AR33 PS_DDR_DM3 (io), AR34 PS_DDR_A16 (io), AR35 PS_DDR_A8 (io), AR36 VCCO_PSDDR_504 (power), AR37 PS_DDR_ACT_N (io), AR38 PS_DDR_DQ37 (io), AR39 PS_DDR_DM4 (io), AR40 PS_DDR_DQS_N4 (io), AR42 PS_DDR_DQ48 (io), AT30 PS_DDR_DQS_N2 (io), AT31 PS_DDR_DQ20 (io), AT32 PS_DDR_DQS_N3 (io), AT33 PS_DDR_DQ26 (io), AT35 PS_DDR_A9 (io), AT36 PS_DDR_A7 (io), AT37 PS_DDR_ODT1 (io), AT38 PS_DDR_CKE1 (io), AT40 PS_DDR_DQ51 (io), AT41 PS_DDR_DQ49 (io), AT42 PS_DDR_DQ50 (io), AU29 PS_DDR_DQ23 (io), AU30 PS_DDR_DQ21 (io), AU31 PS_DDR_DQ22 (io), AU32 VCCO_PSDDR_504 (power), AU33 PS_DDR_DQ25 (io), AU34 PS_DDR_DQ27 (io), AU35 PS_DDR_A10 (io), AU36 PS_DDR_A11 (io), AU37 VCCO_PSDDR_504 (power), AU38 PS_DDR_CS_N1 (io), AU39 PS_DDR_DM6 (io), AU40 PS_DDR_DQS_P6 (io), AU41 PS_DDR_DQS_N6 (io), AV29 PS_DDR_DQ0 (io), AV31 PS_DDR_DQ12 (io), AV32 PS_DDR_DQ14 (io), AV33 PS_DDR_DQ15 (io), AV34 PS_DDR_DQ24 (io), AV36 PS_DDR_CK1 (io), AV37 PS_DDR_CK_N1 (io), AV38 PS_DDR_DQ55 (io), AV39 PS_DDR_DQ54 (io), AV41 PS_DDR_DQ53 (io), AV42 PS_DDR_DQ52 (io), AW29 PS_DDR_DQ2 (io), AW30 PS_DDR_DQ1 (io), AW31 PS_DDR_DQ3 (io), AW32 PS_DDR_DQ13 (io), AW33 VCCO_PSDDR_504 (power), AW34 PS_DDR_A15 (io), AW35 PS_DDR_A14 (io), AW36 PS_DDR_A12 (io), AW37 PS_DDR_A13 (io), AW38 VCCO_PSDDR_504 (power), AW39 PS_DDR_DQ71 (io), AW40 PS_DDR_DQ69 (io), AW41 PS_DDR_DQ70 (io), AW42 PS_DDR_DQ68 (io), AY29 PS_DDR_DM0 (io), AY30 PS_DDR_DQS_P0 (io), AY32 PS_DDR_DQS_P1 (io), AY33 PS_DDR_DQS_N1 (io), AY34 PS_DDR_DM1 (io), AY35 PS_DDR_A5 (io), AY37 PS_DDR_CS_N0 (io), AY38 PS_DDR_CKE0 (io), AY39 PS_DDR_DQS_P8 (io), AY40 PS_DDR_DQS_N8 (io), AY42 PS_DDR_DM8 (io), BA30 PS_DDR_DQS_N0 (io), BA31 PS_DDR_DQ7 (io), BA32 PS_DDR_DQ9 (io), BA33 PS_DDR_DQ10 (io), BA35 PS_DDR_A2 (io), BA36 PS_DDR_CK0 (io), BA37 PS_DDR_CK_N0 (io), BA38 PS_DDR_A0 (io), BA40 PS_DDR_DQ67 (io), BA41 PS_DDR_DQ65 (io), BA42 PS_DDR_DQ66 (io), BB29 PS_DDR_DQ6 (io), BB30 PS_DDR_DQ5 (io), BB31 PS_DDR_DQ4 (io), BB33 PS_DDR_DQ8 (io), BB34 PS_DDR_DQ11 (io), BB35 PS_DDR_A3 (io), BB36 PS_DDR_A1 (io), BB38 PS_DDR_A4 (io), BB39 PS_DDR_ODT0 (io), BB40 PS_DDR_DQ64 (io)
part 31 pins: AA37 PS_MGTREFCLK3P_505 (io), AA38 PS_MGTREFCLK3N_505 (io), AA41 PS_MGTRRXP3_505 (io), AA42 PS_MGTRRXN3_505 (io), AB39 PS_MGTRTXP3_505 (io), AB40 PS_MGTRTXN3_505 (io), AC37 PS_MGTREFCLK2P_505 (io), AC38 PS_MGTREFCLK2N_505 (io), AC41 PS_MGTRRXP2_505 (io), AC42 PS_MGTRRXN2_505 (io), AD39 PS_MGTRTXP2_505 (io), AD40 PS_MGTRTXN2_505 (io), AE37 PS_MGTREFCLK1P_505 (io), AE38 PS_MGTREFCLK1N_505 (io), AE41 PS_MGTRRXP1_505 (io), AE42 PS_MGTRRXN1_505 (io), AF39 PS_MGTRTXP1_505 (io), AF40 PS_MGTRTXN1_505 (io), AG37 PS_MGTREFCLK0P_505 (io), AG38 PS_MGTREFCLK0N_505 (io), AG41 PS_MGTRRXP0_505 (io), AG42 PS_MGTRRXN0_505 (io), AH39 PS_MGTRTXP0_505 (io), AH40 PS_MGTRTXN0_505 (io)
part 32 pins: AA12 MGTAVCC_RN_AA12 (power), AA34 MGTAVCC_L_AA34 (power), AB10 MGTAVCC_RS_AB10 (power), AC12 MGTAVCC_RN_AC12 (power), AD10 MGTAVCC_RS_AD10 (power), AF10 MGTAVCC_RS_AF10 (power), AH10 MGTAVCC_RS_AH10 (power), AK10 MGTAVCC_RS_AK10 (power), H32 MGTAVCC_L_H32 (power), K32 MGTAVCC_L_K32 (power), M32 MGTAVCC_L_M32 (power), T10 MGTAVCC_RN_T10 (power), V10 MGTAVCC_RN_V10 (power), W34 MGTAVCC_L_W34 (power), Y10 MGTAVCC_RN_Y10 (power), Y32 MGTAVCC_L_Y32 (power)
part 33 pins: AA8 MGTAVTT_RN_AA8 (power), AB6 MGTAVTT_RN_AB6 (power), AC8 MGTAVTT_RN_AC8 (power), AD6 MGTAVTT_RS_AD6 (power), AE8 MGTAVTT_RS_AE8 (power), AF6 MGTAVTT_RS_AF6 (power), AG8 MGTAVTT_RS_AG8 (power), AH6 MGTAVTT_RS_AH6 (power), AJ8 MGTAVTT_RS_AJ8 (power), AK6 MGTAVTT_RS_AK6 (power), AL8 MGTAVTT_RS_AL8 (power), AM6 MGTAVTT_RS_AM6 (power), AN8 MGTAVTT_RS_AN8 (power), AP6 MGTAVTT_RS_AP6 (power), AR8 MGTAVTT_RS_AR8 (power), AT6 MGTAVTT_RS_AT6 (power), AV6 MGTAVTT_RS_AV6 (power), F36 MGTAVTT_L_F36 (power), G34 MGTAVTT_L_G34 (power), H36 MGTAVTT_L_H36 (power), J34 MGTAVTT_L_J34 (power), K6 MGTAVTT_RN_K6 (power), K36 MGTAVTT_L_K36 (power), L8 MGTAVTT_RN_L8 (power), L34 MGTAVTT_L_L34 (power), M6 MGTAVTT_RN_M6 (power), M36 MGTAVTT_L_M36 (power), N8 MGTAVTT_RN_N8 (power), N34 MGTAVTT_L_N34 (power), P6 MGTAVTT_RN_P6 (power), P36 MGTAVTT_L_P36 (power), R8 MGTAVTT_RN_R8 (power), R34 MGTAVTT_L_R34 (power), T6 MGTAVTT_RN_T6 (power), T36 MGTAVTT_L_T36 (power), U8 MGTAVTT_RN_U8 (power), U34 MGTAVTT_L_U34 (power), V6 MGTAVTT_RN_V6 (power), V36 MGTAVTT_L_V36 (power), W8 MGTAVTT_RN_W8 (power), Y6 MGTAVTT_RN_Y6 (power)
part 34 pins: AA39 PS_MGTRAVCC_AA39 (power), AB37 PS_MGTRAVTT_AB37 (power), AC39 PS_MGTRAVTT_AC39 (power), AD37 PS_MGTRAVTT_AD37 (power), AE39 PS_MGTRAVCC_AE39 (power), AF37 PS_MGTRAVCC_AF37 (power), AG12 MGTVCCAUX_RS_AG12 (power), AJ12 MGTVCCAUX_RS_AJ12 (power), P32 MGTVCCAUX_L_P32 (power), U12 MGTVCCAUX_RN_U12 (power), V32 MGTVCCAUX_L_V32 (power), W12 MGTVCCAUX_RN_W12 (power)
part 35 pins: AA15 VCCAUX_AA15 (power), AC15 VCCBRAM_AC15 (power), AE15 VCCBRAM_AE15 (power), AF15 VCCBRAM_AF15 (power), AG15 VCCBRAM_AG15 (power), T14 VCCAUX_IO_T14 (power), U14 VCCAUX_IO_U14 (power), U15 VCCAUX_U15 (power), V14 VCCAUX_IO_V14 (power), W15 VCCAUX_W15 (power), Y14 VCCAUX_IO_Y14 (power), Y15 VCCAUX_Y15 (power)
part 36 pins: AA17 VCCINT_AA17 (power), AA19 VCCINT_AA19 (power), AA23 VCCINT_AA23 (power), AA25 VCCINT_AA25 (power), AB14 VCCINT_IO_AB14 (power), AB16 VCCINT_AB16 (power), AB18 VCCINT_AB18 (power), AB22 VCCINT_AB22 (power), AB24 VCCINT_AB24 (power), AB26 VCCINT_AB26 (power), AC17 VCCINT_AC17 (power), AC19 VCCINT_AC19 (power), AC23 VCCINT_AC23 (power), AC25 VCCINT_AC25 (power), AD14 VCCINT_IO_AD14 (power), AD16 VCCINT_AD16 (power), AD18 VCCINT_AD18 (power), AD20 VCCINT_AD20 (power), AD22 VCCINT_AD22 (power), AD24 VCCINT_AD24 (power), AE14 VCCINT_IO_AE14 (power), AE17 VCCINT_AE17 (power), AE19 VCCINT_AE19 (power), AE21 VCCINT_AE21 (power), AE23 VCCINT_AE23 (power), AF14 VCCINT_IO_AF14 (power), AF16 VCCINT_AF16 (power), AF18 VCCINT_AF18 (power), AF20 VCCINT_AF20 (power), AF22 VCCINT_AF22 (power), AF24 VCCINT_AF24 (power), AG17 VCCINT_AG17 (power), AG19 VCCINT_AG19 (power), AG21 VCCINT_AG21 (power), AG23 VCCINT_AG23 (power), AH18 VCCINT_AH18 (power), AH20 VCCINT_AH20 (power), AH22 VCCINT_AH22 (power), AH24 VCCINT_AH24 (power), R17 VCCINT_R17 (power), R19 VCCINT_R19 (power), R21 VCCINT_R21 (power), R23 VCCINT_R23 (power), R25 VCCINT_R25 (power), T16 VCCINT_T16 (power), T18 VCCINT_T18 (power), T20 VCCINT_T20 (power), T22 VCCINT_T22 (power), T24 VCCINT_T24 (power), T26 VCCINT_T26 (power), U17 VCCINT_U17 (power), U19 VCCINT_U19 (power), U21 VCCINT_U21 (power), U23 VCCINT_U23 (power), U25 VCCINT_U25 (power), V16 VCCINT_V16 (power), V18 VCCINT_V18 (power), V20 VCCINT_V20 (power), V22 VCCINT_V22 (power), V24 VCCINT_V24 (power), V26 VCCINT_V26 (power), W17 VCCINT_W17 (power), W19 VCCINT_W19 (power), W21 VCCINT_W21 (power), W23 VCCINT_W23 (power), W25 VCCINT_W25 (power), Y16 VCCINT_Y16 (power), Y18 VCCINT_Y18 (power), Y22 VCCINT_Y22 (power), Y24 VCCINT_Y24 (power), Y26 VCCINT_Y26 (power)
part 37 pins: AE25 VCC_PSPLL_AE25 (power), AF25 VCC_PSINTFP_AF25 (power), AF26 VCC_PSPLL_AF26 (power), AF27 VCC_PSPLL_AF27 (power), AF28 VCC_PSDDR_PLL_AF28 (power), AG25 VCC_PSINTFP_AG25 (power), AG26 VCC_PSAUX_AG26 (power), AG28 VCC_PSDDR_PLL_AG28 (power), AG29 VCC_PSAUX_AG29 (power), AH25 VCC_PSINTLP_AH25 (power), AH26 VCC_PSAUX_AH26 (power), AH27 VCC_PSBATT_AH27 (power), AH29 VCC_PSAUX_AH29 (power), AJ25 VCC_PSINTFP_AJ25 (power), AJ26 VCC_PSINTFP_AJ26 (power), AJ27 VCC_PSINTLP_AJ27 (power), AK25 VCC_PSINTFP_AK25 (power), AK27 VCC_PSINTFP_DDR_AK27 (power), AK28 VCC_PSINTLP_AK28 (power), AK29 VCC_PSINTLP_AK29 (power), AL25 VCC_PSINTFP_AL25 (power), AL26 VCC_PSINTFP_AL26 (power), AL27 VCC_PSINTFP_DDR_AL27 (power), AL28 VCC_PSINTFP_DDR_AL28 (power)
part 38 pins: A2 GND_A2 (power), A6 GND_A6 (power), A11 GND_A11 (power), A16 GND_A16 (power), A21 GND_A21 (power), A26 GND_A26 (power), A31 GND_A31 (power), A36 GND_A36 (power), A41 GND_A41 (power), AA3 GND_AA3 (power), AA4 GND_AA4 (power), AA7 GND_AA7 (power), AA11 GND_AA11 (power), AA13 GND_AA13 (power), AA14 GND_AA14 (power), AA16 GND_AA16 (power), AA18 GND_AA18 (power), AA22 GND_AA22 (power), AA24 GND_AA24 (power), AA26 GND_AA26 (power), AA29 GND_AA29 (power), AA31 GND_AA31 (power), AA35 GND_AA35 (power), AA36 GND_AA36 (power), AA40 GND_AA40 (power), AB1 GND_AB1 (power), AB2 GND_AB2 (power), AB5 GND_AB5 (power), AB9 GND_AB9 (power), AB13 GND_AB13 (power), AB15 GND_AB15 (power), AB17 GND_AB17 (power), AB19 GND_AB19 (power), AB23 GND_AB23 (power), AB25 GND_AB25 (power), AB31 GND_AB31 (power), AB32 GND_AB32 (power), AB33 GND_AB33 (power), AB36 GND_AB36 (power), AB38 GND_AB38 (power), AB41 GND_AB41 (power), AB42 GND_AB42 (power), AC3 GND_AC3 (power), AC4 GND_AC4 (power), AC7 GND_AC7 (power), AC11 GND_AC11 (power), AC13 GND_AC13 (power), AC14 GND_AC14 (power), AC16 GND_AC16 (power), AC18 GND_AC18 (power), AC22 GND_AC22 (power), AC24 GND_AC24 (power), AC33 GND_AC33 (power), AC34 GND_AC34 (power), AC35 GND_AC35 (power), AC36 GND_AC36 (power), AC40 GND_AC40 (power), AD1 GND_AD1 (power), AD2 GND_AD2 (power), AD5 GND_AD5 (power), AD9 GND_AD9 (power), AD13 GND_AD13 (power), AD15 GND_AD15 (power), AD17 GND_AD17 (power), AD19 GND_AD19 (power), AD21 GND_AD21 (power), AD23 GND_AD23 (power), AD36 GND_AD36 (power), AD38 GND_AD38 (power), AD41 GND_AD41 (power), AD42 GND_AD42 (power), AE3 GND_AE3 (power), AE4 GND_AE4 (power), AE7 GND_AE7 (power), AE13 GND_AE13 (power), AE16 GND_AE16 (power), AE18 GND_AE18 (power), AE20 GND_AE20 (power), AE22 GND_AE22 (power), AE24 GND_AE24 (power), AE26 GND_AE26 (power), AE31 GND_AE31 (power), AE36 GND_AE36 (power), AE40 GND_AE40 (power), AF1 GND_AF1 (power), AF2 GND_AF2 (power), AF5 GND_AF5 (power), AF9 GND_AF9 (power), AF13 GND_AF13 (power), AF17 GND_AF17 (power), AF19 GND_AF19 (power), AF21 GND_AF21 (power), AF23 GND_AF23 (power), AF29 GND_AF29 (power), AF36 GND_AF36 (power), AF38 GND_AF38 (power), AF41 GND_AF41 (power), AF42 GND_AF42 (power), AG3 GND_AG3 (power), AG4 GND_AG4 (power), AG7 GND_AG7 (power), AG11 GND_AG11 (power), AG13 GND_AG13 (power), AG14 GND_AG14 (power), AG16 GND_AG16 (power), AG18 GND_AG18 (power), AG20 GND_AG20 (power), AG22 GND_AG22 (power), AG24 GND_AG24 (power), AG36 GND_AG36 (power), AG40 GND_AG40 (power), AH1 GND_AH1 (power), AH2 GND_AH2 (power), AH5 GND_AH5 (power), AH9 GND_AH9 (power), AH13 GND_AH13 (power), AH15 GND_AH15 (power), AH19 GND_AH19 (power), AH21 GND_AH21 (power), AH23 GND_AH23 (power), AH30 GND_AH30 (power), AH35 GND_AH35 (power), AH36 GND_AH36 (power), AH37 GND_AH37 (power), AH38 GND_AH38 (power), AH41 GND_AH41 (power), AH42 GND_AH42 (power), AJ3 GND_AJ3 (power), AJ4 GND_AJ4 (power), AJ7 GND_AJ7 (power), AJ11 GND_AJ11 (power), AJ13 GND_AJ13 (power), AJ33 GND_AJ33 (power), AJ38 GND_AJ38 (power), AJ39 GND_AJ39 (power), AJ40 GND_AJ40 (power), AJ41 GND_AJ41 (power), AK1 GND_AK1 (power), AK2 GND_AK2 (power), AK5 GND_AK5 (power), AK9 GND_AK9 (power), AK13 GND_AK13 (power), AK16 GND_AK16 (power), AK21 GND_AK21 (power), AK26 GND_AK26 (power), AK31 GND_AK31 (power), AK36 GND_AK36 (power), AL3 GND_AL3 (power), AL4 GND_AL4 (power), AL7 GND_AL7 (power), AL9 GND_AL9 (power), AL10 GND_AL10 (power), AL11 GND_AL11 (power), AL12 GND_AL12 (power), AL13 GND_AL13 (power), AL19 GND_AL19 (power), AL24 GND_AL24 (power), AL29 GND_AL29 (power), AL34 GND_AL34 (power), AL39 GND_AL39 (power), AM1 GND_AM1 (power), AM2 GND_AM2 (power), AM5 GND_AM5 (power), AM9 GND_AM9 (power), AM12 GND_AM12 (power), AM17 GND_AM17 (power), AM22 GND_AM22 (power), AM27 GND_AM27 (power), AM37 GND_AM37 (power), AM42 GND_AM42 (power), AN3 GND_AN3 (power), AN4 GND_AN4 (power), AN7 GND_AN7 (power), AN9 GND_AN9 (power), AN15 GND_AN15 (power), AN20 GND_AN20 (power), AN25 GND_AN25 (power), AN30 GND_AN30 (power), AN40 GND_AN40 (power), AP1 GND_AP1 (power), AP2 GND_AP2 (power), AP5 GND_AP5 (power), AP9 GND_AP9 (power), AP23 GND_AP23 (power), AP28 GND_AP28 (power), AP33 GND_AP33 (power), AP38 GND_AP38 (power), AR3 GND_AR3 (power), AR4 GND_AR4 (power), AR7 GND_AR7 (power), AR9 GND_AR9 (power), AR11 GND_AR11 (power), AR16 GND_AR16 (power), AR41 GND_AR41 (power), AT1 GND_AT1 (power), AT2 GND_AT2 (power), AT5 GND_AT5 (power), AT9 GND_AT9 (power), AT14 GND_AT14 (power), AT19 GND_AT19 (power), AT24 GND_AT24 (power), AT29 GND_AT29 (power), AT34 GND_AT34 (power), AT39 GND_AT39 (power), AU3 GND_AU3 (power), AU4 GND_AU4 (power), AU7 GND_AU7 (power), AU8 GND_AU8 (power), AU9 GND_AU9 (power), AU17 GND_AU17 (power), AU22 GND_AU22 (power), AU27 GND_AU27 (power), AU42 GND_AU42 (power), AV1 GND_AV1 (power), AV2 GND_AV2 (power), AV5 GND_AV5 (power), AV7 GND_AV7 (power), AV10 GND_AV10 (power), AV30 GND_AV30 (power), AV35 GND_AV35 (power), AV40 GND_AV40 (power), AW3 GND_AW3 (power), AW4 GND_AW4 (power), AW7 GND_AW7 (power), AW13 GND_AW13 (power), AW18 GND_AW18 (power), AW23 GND_AW23 (power), AW28 GND_AW28 (power), AY1 GND_AY1 (power), AY2 GND_AY2 (power), AY5 GND_AY5 (power), AY6 GND_AY6 (power), AY16 GND_AY16 (power), AY21 GND_AY21 (power), AY26 GND_AY26 (power), AY31 GND_AY31 (power), AY36 GND_AY36 (power), AY41 GND_AY41 (power)
part 39 pins: AY7 GND_AY7 (power), B4 GND_B4 (power), B14 GND_B14 (power), B19 GND_B19 (power), B24 GND_B24 (power), B29 GND_B29 (power), B39 GND_B39 (power), BA3 GND_BA3 (power), BA4 GND_BA4 (power), BA5 GND_BA5 (power), BA9 GND_BA9 (power), BA29 GND_BA29 (power), BA34 GND_BA34 (power), BA39 GND_BA39 (power), BB2 GND_BB2 (power), BB3 GND_BB3 (power), BB7 GND_BB7 (power), BB12 GND_BB12 (power), BB17 GND_BB17 (power), BB22 GND_BB22 (power), BB27 GND_BB27 (power), BB32 GND_BB32 (power), BB37 GND_BB37 (power), BB41 GND_BB41 (power), C7 GND_C7 (power), C32 GND_C32 (power), C38 GND_C38 (power), C39 GND_C39 (power), C40 GND_C40 (power), C41 GND_C41 (power), D10 GND_D10 (power), D15 GND_D15 (power), D20 GND_D20 (power), D25 GND_D25 (power), D35 GND_D35 (power), D36 GND_D36 (power), D37 GND_D37 (power), D38 GND_D38 (power), D41 GND_D41 (power), D42 GND_D42 (power), E8 GND_E8 (power), E13 GND_E13 (power), E18 GND_E18 (power), E23 GND_E23 (power), E28 GND_E28 (power), E33 GND_E33 (power), E34 GND_E34 (power), E35 GND_E35 (power), E38 GND_E38 (power), E39 GND_E39 (power), E40 GND_E40 (power), F1 GND_F1 (power), F2 GND_F2 (power), F3 GND_F3 (power), F11 GND_F11 (power), F33 GND_F33 (power), F37 GND_F37 (power), F38 GND_F38 (power), F41 GND_F41 (power), F42 GND_F42 (power), G3 GND_G3 (power), G4 GND_G4 (power), G5 GND_G5 (power), G14 GND_G14 (power), G19 GND_G19 (power), G24 GND_G24 (power), G31 GND_G31 (power), G32 GND_G32 (power), G33 GND_G33 (power), G35 GND_G35 (power), G38 GND_G38 (power), G39 GND_G39 (power), G40 GND_G40 (power), H1 GND_H1 (power), H2 GND_H2 (power), H5 GND_H5 (power), H6 GND_H6 (power), H7 GND_H7 (power), H17 GND_H17 (power), H22 GND_H22 (power), H27 GND_H27 (power), H31 GND_H31 (power), H33 GND_H33 (power), H37 GND_H37 (power), H38 GND_H38 (power), H41 GND_H41 (power), H42 GND_H42 (power), J3 GND_J3 (power), J4 GND_J4 (power), J7 GND_J7 (power), J10 GND_J10 (power), J31 GND_J31 (power), J35 GND_J35 (power), J38 GND_J38 (power), J39 GND_J39 (power), J40 GND_J40 (power), K1 GND_K1 (power), K2 GND_K2 (power), K5 GND_K5 (power), K7 GND_K7 (power), K8 GND_K8 (power), K9 GND_K9 (power), K13 GND_K13 (power), K18 GND_K18 (power), K23 GND_K23 (power), K28 GND_K28 (power), K31 GND_K31 (power), K33 GND_K33 (power), K37 GND_K37 (power), K38 GND_K38 (power), K41 GND_K41 (power), K42 GND_K42 (power), L3 GND_L3 (power), L4 GND_L4 (power), L7 GND_L7 (power), L9 GND_L9 (power), L16 GND_L16 (power), L21 GND_L21 (power), L26 GND_L26 (power), L31 GND_L31 (power), L35 GND_L35 (power), L38 GND_L38 (power), L39 GND_L39 (power), L40 GND_L40 (power), M1 GND_M1 (power), M2 GND_M2 (power), M5 GND_M5 (power), M9 GND_M9 (power), M19 GND_M19 (power), M24 GND_M24 (power), M29 GND_M29 (power), M31 GND_M31 (power), M33 GND_M33 (power), M37 GND_M37 (power), M38 GND_M38 (power), M41 GND_M41 (power), M42 GND_M42 (power), N3 GND_N3 (power), N4 GND_N4 (power), N7 GND_N7 (power), N9 GND_N9 (power), N17 GND_N17 (power), N22 GND_N22 (power), N31 GND_N31 (power), N35 GND_N35 (power), N38 GND_N38 (power), N39 GND_N39 (power), N40 GND_N40 (power), P1 GND_P1 (power), P2 GND_P2 (power), P5 GND_P5 (power), P9 GND_P9 (power), P10 GND_P10 (power), P11 GND_P11 (power), P20 GND_P20 (power), P25 GND_P25 (power), P31 GND_P31 (power), P33 GND_P33 (power), P37 GND_P37 (power), P38 GND_P38 (power), P41 GND_P41 (power), P42 GND_P42 (power), R3 GND_R3 (power), R4 GND_R4 (power), R7 GND_R7 (power), R11 GND_R11 (power), R12 GND_R12 (power), R13 GND_R13 (power), R16 GND_R16 (power), R18 GND_R18 (power), R20 GND_R20 (power), R22 GND_R22 (power), R24 GND_R24 (power), R26 GND_R26 (power), R28 GND_R28 (power), R31 GND_R31 (power), R35 GND_R35 (power), R38 GND_R38 (power), R39 GND_R39 (power), R40 GND_R40 (power), T1 GND_T1 (power), T2 GND_T2 (power), T5 GND_T5 (power), T9 GND_T9 (power), T13 GND_T13 (power), T15 GND_T15 (power), T17 GND_T17 (power), T19 GND_T19 (power), T21 GND_T21 (power), T23 GND_T23 (power), T25 GND_T25 (power), T31 GND_T31 (power), T37 GND_T37 (power), T38 GND_T38 (power), T41 GND_T41 (power), T42 GND_T42 (power), U3 GND_U3 (power), U4 GND_U4 (power), U7 GND_U7 (power), U11 GND_U11 (power), U13 GND_U13 (power), U16 GND_U16 (power), U18 GND_U18 (power), U20 GND_U20 (power), U22 GND_U22 (power), U24 GND_U24 (power), U26 GND_U26 (power), U31 GND_U31 (power), U35 GND_U35 (power), U38 GND_U38 (power), U39 GND_U39 (power), U40 GND_U40 (power), V1 GND_V1 (power), V2 GND_V2 (power), V5 GND_V5 (power), V9 GND_V9 (power), V13 GND_V13 (power), V15 GND_V15 (power), V17 GND_V17 (power), V19 GND_V19 (power), V21 GND_V21 (power), V23 GND_V23 (power), V25 GND_V25 (power), V31 GND_V31 (power), V33 GND_V33 (power), V37 GND_V37 (power), V38 GND_V38 (power), V41 GND_V41 (power), V42 GND_V42 (power), W3 GND_W3 (power), W4 GND_W4 (power), W7 GND_W7 (power), W11 GND_W11 (power), W13 GND_W13 (power), W14 GND_W14 (power), W16 GND_W16 (power), W18 GND_W18 (power), W20 GND_W20 (power), W22 GND_W22 (power), W24 GND_W24 (power), W26 GND_W26 (power), W31 GND_W31 (power), W35 GND_W35 (power), W38 GND_W38 (power), W39 GND_W39 (power), W40 GND_W40 (power), Y1 GND_Y1 (power), Y2 GND_Y2 (power), Y5 GND_Y5 (power), Y9 GND_Y9 (power), Y13 GND_Y13 (power), Y17 GND_Y17 (power), Y19 GND_Y19 (power), Y23 GND_Y23 (power), Y25 GND_Y25 (power), Y31 GND_Y31 (power), Y33 GND_Y33 (power), Y36 GND_Y36 (power), Y37 GND_Y37 (power), Y38 GND_Y38 (power), Y39 GND_Y39 (power), Y40 GND_Y40 (power), Y41 GND_Y41 (power), Y42 GND_Y42 (power)

## XT30PW
designator J?
XT30电源接插件直插
footprint XT30PW-M
footprint XT30PW-F
footprint XT30UPB-M
pins: 1, 2
text: +

## XT60PT-F
designator J?
XT60电源接插件贴片母座; MP: XT60PW-F; MF: AMASS; SnapEDA_Link: https://www.snapeda.com/parts/XT60PW-F/AMASS/view-part/?ref=snap; Package: Package; Availability: Not in stock; Price: None; Check_prices: https://www.snapeda.com/parts/XT60PW-F/AMASS/view-part/?ref=eda; Value: *
footprint XT60PT-F
pins: 1, 2
text: +

## XT60PW-F
designator J?
XT60电源接插件直插; MF: AMASS; SnapEDA_Link: https://www.snapeda.com/parts/XT60PW-F/AMASS/view-part/?ref=snap; Package: Package; Availability: Not in stock; Price: None; Check_prices: https://www.snapeda.com/parts/XT60PW-F/AMASS/view-part/?ref=eda; MP: XT60PW-F; Value: *
footprint XT60PW-F
pins: 1, 2
text: +

## XT90PW-F
designator J?
XT90电源接插件直插; MP: XT60PW-F; MF: AMASS; SnapEDA_Link: https://www.snapeda.com/parts/XT60PW-F/AMASS/view-part/?ref=snap; Package: Package; Availability: Not in stock; Price: None; Check_prices: https://www.snapeda.com/parts/XT60PW-F/AMASS/view-part/?ref=eda; Value: *
footprint XT90PW-F
pins: 1, 2
text: +

## ZYNQ7020_DDR3_Core
designator J?, comment ZYNQ7020
DDR3_sodimm_Pin204 DDR3封装ZYNQ7010/7020核心板
footprint DDR3_sodimm_Pin204
part A pins: 1 5V, 2 5V, 3 5V, 4 5V, 5 GND, 6 GND, 7 1V8, 8 1V8, 9 GND, 10 GND, 11 GND, 12 GND, 13 GND, 14 GND, 15 QSPI_D2, 16 QSPI_D3, 17 PS_MIO8, 18 PS_MIO0, 19 GND, 20 GND, 21 FPGA_TMS, 22 PS_MIO9, 23 FPGA_TDI, 24 PS_MIO7, 25 FPGA_TDO, 26 PS_POR_B, 27 FPGA_TCK, 28 RESET_POR, 29 PS_MIO36, 30 PS_SRST_B, 31 PS_MIO33, 32 PS_MIO34, 33 PS_MIO38, 34 PS_MIO32, 35 PS_MIO37, 36 PS_MIO29, 37 GND, 38 GND, 39 PS_MIO35, 40 PS_MIO39, 41 PS_MIO31, 42 PS_MIO28, 43 V5, 44 PS_MIO30, 45 U8(7020only), 46 U5(7020only), 47 U9(7020only), 48 T5(7020only), 49 V10(7020only), 50 U10(7020only), 51 V11(7020only), 52 T9(7020only), 53 V13, 54 U13, 55 GND, 56 GND, 57 H16, 58 T15, 59 H17, 60 T14, 61 T12, 62 P16, 63 U12, 64 P15, 65 P14, 66 R18, 67 R14, 68 T17, 69 M17, 70 V6(7020only), 71 M18, 72 W6(7020only)
part B pins: 73 GND, 74 GND, 75 Y6(7020only), 76 U7(7020only), 77 Y7(7020only), 78 V7(7020only), 79 Y8(7020only), 80 W8(7020only), 81 Y9(7020only), 82 V8(7020only), 83 Y11(7020only), 84 W9(7020only), 85 W11(7020only), 86 U9(7020only), 87 Y12(7020only), 88 T10, 89 Y13(7020only), 90 T11, 91 GND, 92 GND, 93 Y14, 94 V12, 95 W14, 96 W13, 97 Y16, 98 N15, 99 Y17, 100 N16, 101 P18, 102 R16, 103 N17, 104 R17, 105 U14, 106 P19, 107 U15, 108 N18, 109 GND, 110 GND, 111 T16, 112 L16, 113 U17, 114 L17, 115 W18, 116 V15, 117 W19, 118 W15, 119 PL_GCLK, 120 K16, 121 U19, 122 J16, 123 T19, 124 K17, 125 R19, 126 K18, 127 GND, 128 GND, 129 Y18, 130 V16, 131 Y19, 132 W16, 133 W20, 134 V17, 135 V20, 136 V18, 137 U20, 138 K19, 139 V20, 140 J19, 141 GND, 142 GND, 143 P20, 144 J18, 145 T20, 146 H18, 147 M19, 148 M14, 149 M20, 150 M15, 151 L19, 152 L15, 153 L20, 154 L14, 155 GND, 156 GND, 157 J20, 158 J14, 159 H20, 160 K14, 161 G15, 162 F16, 163 H15, 164 F17, 165 E18, 166 D18, 167 E19, 168 E17, 169 PS_MIO27, 170 PS_MIO25, 171 PS_MIO17, 172 PS_MIO21, 173 GND, 174 GND, 175 PS_MIO18, 176 PS_MIO16, 177 PS_MIO19, 178 PS_MIO23, 179 PS_MIO20, 180 PS_MIO24, 181 PS_MIO22, 182 PS_MIO26, 183 PS_MIO40, 184 PS_MIO42, 185 PS_MIO46, 186 PS_MIO44, 187 GND, 188 GND, 189 PS_MIO45, 190 PS_MIO47, 191 PS_MIO49, 192 PS_MIO50, 193 PS_MIO41, 194 PS_MIO48, 195 G20, 196 PS_MIO52, 197 G19, 198 PS_MIO53, 199 F20, 200 PS_MIO43, 201 F19, 202 PS_MIO51, 203 GND, 204 GND